# Altium integrated library Microchip Linear.IntLib: 855 symbols (part 14 of 22)
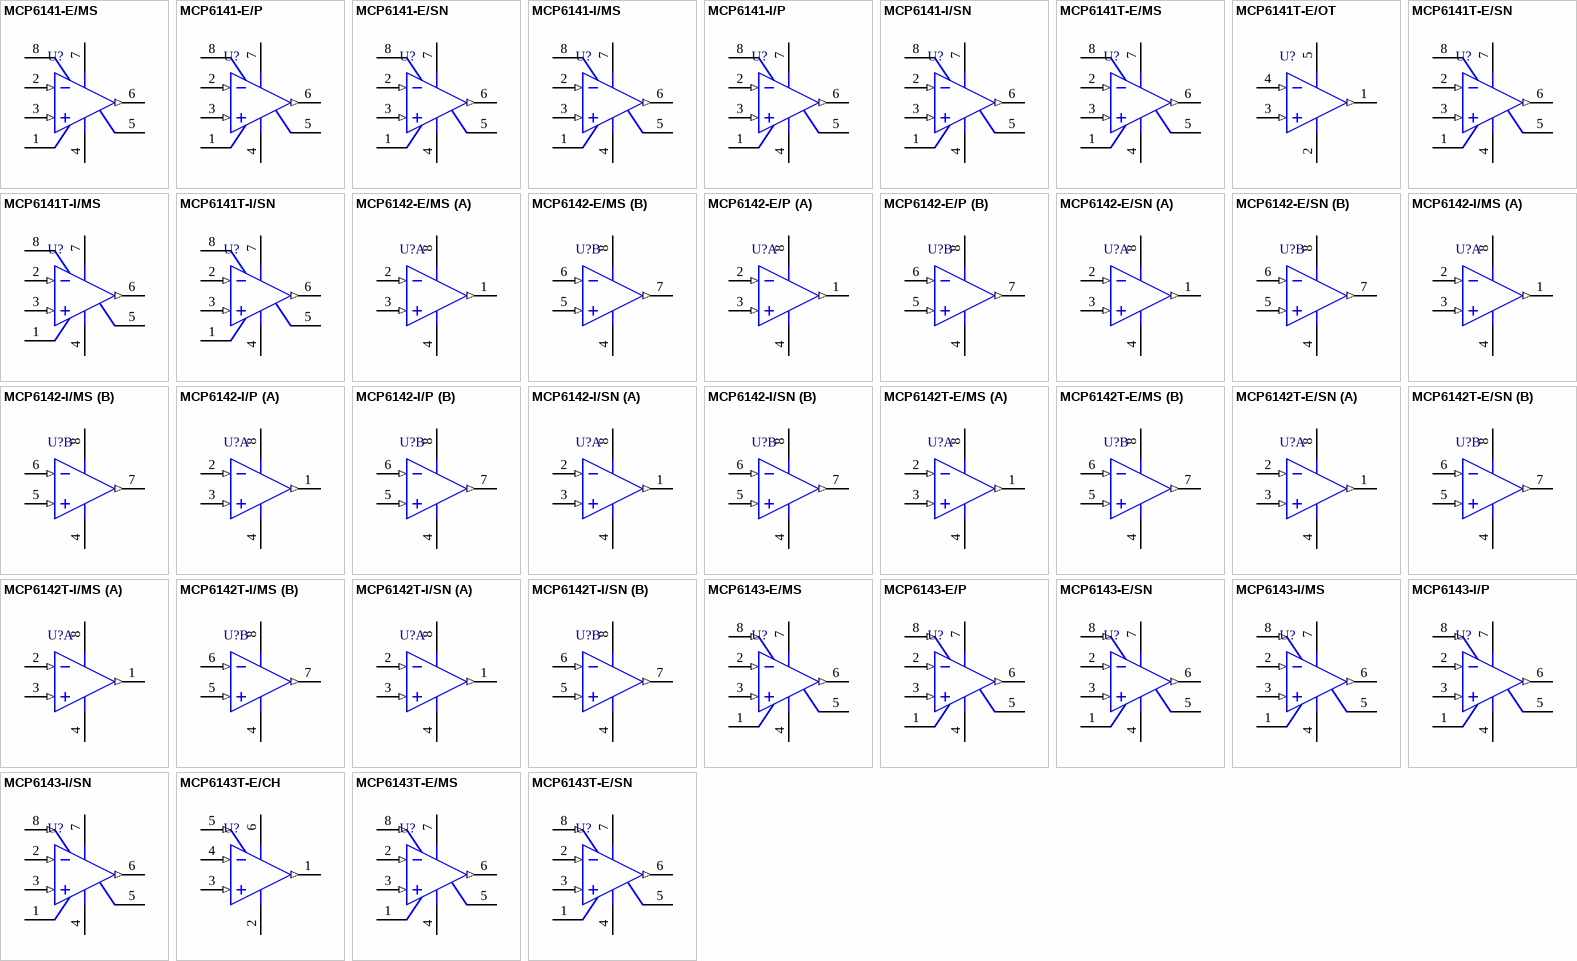
[diagram p54: symbols MCP6141-E/MS to MCP6143T-E/SN]

## MCP6141T-I/MS
designator U?
600 nA, Non-Unity Gain Rail-to-Rail Input/Output Operational Amplifier, 8-Pin MSOP, Industrial Temperature, Tape and Reel; Manufacturer: Microchip; PartNumber: MCP6141T-I/MS; DatasheetVersion: revD, May-2009; PackageVersion: revBB, Aug-2009; PackageReference: MSOP-MS8; PackageDescription: 8-Lead Plastic Micro Small Outline Package (MS) [MSOP]; Supplier 1: Digi-Key; Supplier Part Number 1: MCP6141T-I/MS-ND; Mounting Technology: Surface Mount; ComponentLink1Description: Manufacturer URL; ComponentLink1URL: http://www.microchip.com/; ComponentLink2Description: Datasheet; ComponentLink2URL: http://ww1.microchip.com/downloads/en/DeviceDoc/21668d.pdf; ComponentLink3Description: Package Specification; ComponentLink3URL: http://www.microchip.com/stellent/groups/techpub_sg/documents/packagingspec/en012702.pdf
footprint MSOP-MS8_N (TSOP, 8-Leads, Body 3x3mm, Pitch 0.65mm, IPC Medium Density)
footprint MSOP-MS8_L (TSOP, 8-Leads, Body 3x3mm, Pitch 0.65mm, IPC High Density)
footprint MSOP-MS8_M (TSOP, 8-Leads, Body 3x3mm, Pitch 0.65mm, IPC Low Density)
pins: 1 NC, 2 VIN- (in), 3 VIN+ (in), 4 VSS (power), 5 NC, 6 VOUT (out), 7 VDD (power), 8 NC

## MCP6141T-I/SN
designator U?
600 nA, Non-Unity Gain Rail-to-Rail Input/Output Operational Amplifier, 8-Pin SOIC, Industrial Temperature, Tape and Reel; Manufacturer: Microchip; PartNumber: MCP6141T-I/SN; DatasheetVersion: revD, May-2009; PackageVersion: revBB, Aug-2009; PackageReference: SOIC-SN8; PackageDescription: 8-Lead Plastic Small Outline (SN) - Narrow, 3.90mm Body [SOIC]; Supplier 1: Digi-Key; Supplier Part Number 1: MCP6141T-I/SN-ND; Mounting Technology: Surface Mount; Code_JEDEC: MS-012; Code_IPC: SOIC127P600-8; ComponentLink1Description: Manufacturer URL; ComponentLink1URL: http://www.microchip.com/; ComponentLink2Description: Datasheet; ComponentLink2URL: http://ww1.microchip.com/downloads/en/DeviceDoc/21668d.pdf; ComponentLink3Description: Package Specification; ComponentLink3URL: http://www.microchip.com/stellent/groups/techpub_sg/documents/packagingspec/en012702.pdf
footprint SOIC-SN8_N (SOIC, 8-Leads, Body 4.9x3.8mm, Pitch 1.27mm, IPC Medium Density)
footprint SOIC-SN8_L (SOIC, 8-Leads, Body 4.9x3.8mm, Pitch 1.27mm, IPC High Density)
footprint SOIC-SN8_M (SOIC, 8-Leads, Body 4.9x3.8mm, Pitch 1.27mm, IPC Low Density)
pins: 1 NC, 2 VIN- (in), 3 VIN+ (in), 4 VSS (power), 5 NC, 6 VOUT (out), 7 VDD (power), 8 NC

## MCP6142-E/MS
designator U?
600 nA, Non-Unity Gain Rail-to-Rail Input/Output Operational Amplifier, 8-Pin MSOP, Extended Temperature; Manufacturer: Microchip; PartNumber: MCP6142-E/MS; DatasheetVersion: revD, May-2009; PackageVersion: revBB, Aug-2009; PackageReference: MSOP-MS8; PackageDescription: 8-Lead Plastic Micro Small Outline Package (MS) [MSOP]; Supplier 1: Digi-Key; Supplier Part Number 1: MCP6142-E/MS-ND; Mounting Technology: Surface Mount; ComponentLink1Description: Manufacturer URL; ComponentLink1URL: http://www.microchip.com/; ComponentLink2Description: Datasheet; ComponentLink2URL: http://ww1.microchip.com/downloads/en/DeviceDoc/21668d.pdf; ComponentLink3Description: Package Specification; ComponentLink3URL: http://www.microchip.com/stellent/groups/techpub_sg/documents/packagingspec/en012702.pdf
footprint MSOP-MS8_N (TSOP, 8-Leads, Body 3x3mm, Pitch 0.65mm, IPC Medium Density)
footprint MSOP-MS8_L (TSOP, 8-Leads, Body 3x3mm, Pitch 0.65mm, IPC High Density)
footprint MSOP-MS8_M (TSOP, 8-Leads, Body 3x3mm, Pitch 0.65mm, IPC Low Density)
pins on every part: 4 VSS (power), 8 VDD (power)
part A pins: 1 VOUTA (out), 2 VINA- (in), 3 VINA+ (in)
part B pins: 5 VINB+ (in), 6 VINB- (in), 7 VOUTB (out)

## MCP6142-E/P
designator U?
600 nA, Non-Unity Gain Rail-to-Rail Input/Output Operational Amplifier, 8-Pin PDIP, Extended Temperature; Manufacturer: Microchip; PartNumber: MCP6142-E/P; DatasheetVersion: revD, May-2009; PackageVersion: revBB, Aug-2009; PackageReference: PDIP300-P8; PackageDescription: 8-Lead Plastic Dual In-Line (P) - 300 mil Body [PDIP]; Supplier 1: Digi-Key; Supplier Part Number 1: MCP6142-E/P-ND; Mounting Technology: Through Hole; Code_JEDEC: MS-001; ComponentLink1Description: Manufacturer URL; ComponentLink1URL: http://www.microchip.com/; ComponentLink2Description: Datasheet; ComponentLink2URL: http://ww1.microchip.com/downloads/en/DeviceDoc/21668d.pdf; ComponentLink3Description: Package Specification; ComponentLink3URL: http://www.microchip.com/stellent/groups/techpub_sg/documents/packagingspec/en012702.pdf
footprint PDIP300-P8 (DIP, 8-Leads, Row Spacing 7.62mm, Pitch 2.54mm, Body 9.5x6.6mm)
pins on every part: 4 VSS (power), 8 VDD (power)
part A pins: 1 VOUTA (out), 2 VINA- (in), 3 VINA+ (in)
part B pins: 5 VINB+ (in), 6 VINB- (in), 7 VOUTB (out)

## MCP6142-E/SN
designator U?
600 nA, Non-Unity Gain Rail-to-Rail Input/Output Operational Amplifier, 8-Pin SOIC, Extended Temperature; Manufacturer: Microchip; PartNumber: MCP6142-E/SN; DatasheetVersion: revD, May-2009; PackageVersion: revBB, Aug-2009; PackageReference: SOIC-SN8; PackageDescription: 8-Lead Plastic Small Outline (SN) - Narrow, 3.90mm Body [SOIC]; Supplier 1: Digi-Key; Supplier Part Number 1: MCP6142-E/SN-ND; Mounting Technology: Surface Mount; Code_JEDEC: MS-012; Code_IPC: SOIC127P600-8; ComponentLink1Description: Manufacturer URL; ComponentLink1URL: http://www.microchip.com/; ComponentLink2Description: Datasheet; ComponentLink2URL: http://ww1.microchip.com/downloads/en/DeviceDoc/21668d.pdf; ComponentLink3Description: Package Specification; ComponentLink3URL: http://www.microchip.com/stellent/groups/techpub_sg/documents/packagingspec/en012702.pdf
footprint SOIC-SN8_N (SOIC, 8-Leads, Body 4.9x3.8mm, Pitch 1.27mm, IPC Medium Density)
footprint SOIC-SN8_L (SOIC, 8-Leads, Body 4.9x3.8mm, Pitch 1.27mm, IPC High Density)
footprint SOIC-SN8_M (SOIC, 8-Leads, Body 4.9x3.8mm, Pitch 1.27mm, IPC Low Density)
pins on every part: 4 VSS (power), 8 VDD (power)
part A pins: 1 VOUTA (out), 2 VINA- (in), 3 VINA+ (in)
part B pins: 5 VINB+ (in), 6 VINB- (in), 7 VOUTB (out)

## MCP6142-I/MS
designator U?
600 nA, Non-Unity Gain Rail-to-Rail Input/Output Operational Amplifier, 8-Pin MSOP, Industrial Temperature; Manufacturer: Microchip; PartNumber: MCP6142-I/MS; DatasheetVersion: revD, May-2009; PackageVersion: revBB, Aug-2009; PackageReference: MSOP-MS8; PackageDescription: 8-Lead Plastic Micro Small Outline Package (MS) [MSOP]; Supplier 1: Digi-Key; Supplier Part Number 1: MCP6142-I/MS-ND; Mounting Technology: Surface Mount; ComponentLink1Description: Manufacturer URL; ComponentLink1URL: http://www.microchip.com/; ComponentLink2Description: Datasheet; ComponentLink2URL: http://ww1.microchip.com/downloads/en/DeviceDoc/21668d.pdf; ComponentLink3Description: Package Specification; ComponentLink3URL: http://www.microchip.com/stellent/groups/techpub_sg/documents/packagingspec/en012702.pdf
footprint MSOP-MS8_N (TSOP, 8-Leads, Body 3x3mm, Pitch 0.65mm, IPC Medium Density)
footprint MSOP-MS8_L (TSOP, 8-Leads, Body 3x3mm, Pitch 0.65mm, IPC High Density)
footprint MSOP-MS8_M (TSOP, 8-Leads, Body 3x3mm, Pitch 0.65mm, IPC Low Density)
pins on every part: 4 VSS (power), 8 VDD (power)
part A pins: 1 VOUTA (out), 2 VINA- (in), 3 VINA+ (in)
part B pins: 5 VINB+ (in), 6 VINB- (in), 7 VOUTB (out)

## MCP6142-I/P
designator U?
600 nA, Non-Unity Gain Rail-to-Rail Input/Output Operational Amplifier, 8-Pin PDIP, Industrial Temperature; Manufacturer: Microchip; PartNumber: MCP6142-I/P; DatasheetVersion: revD, May-2009; PackageVersion: revBB, Aug-2009; PackageReference: PDIP300-P8; PackageDescription: 8-Lead Plastic Dual In-Line (P) - 300 mil Body [PDIP]; Supplier 1: Digi-Key; Supplier Part Number 1: MCP6142-I/P-ND; Mounting Technology: Through Hole; Code_JEDEC: MS-001; ComponentLink1Description: Manufacturer URL; ComponentLink1URL: http://www.microchip.com/; ComponentLink2Description: Datasheet; ComponentLink2URL: http://ww1.microchip.com/downloads/en/DeviceDoc/21668d.pdf; ComponentLink3Description: Package Specification; ComponentLink3URL: http://www.microchip.com/stellent/groups/techpub_sg/documents/packagingspec/en012702.pdf
footprint PDIP300-P8 (DIP, 8-Leads, Row Spacing 7.62mm, Pitch 2.54mm, Body 9.5x6.6mm)
pins on every part: 4 VSS (power), 8 VDD (power)
part A pins: 1 VOUTA (out), 2 VINA- (in), 3 VINA+ (in)
part B pins: 5 VINB+ (in), 6 VINB- (in), 7 VOUTB (out)

## MCP6142-I/SN
designator U?
600 nA, Non-Unity Gain Rail-to-Rail Input/Output Operational Amplifier, 8-Pin SOIC, Industrial Temperature; Manufacturer: Microchip; PartNumber: MCP6142-I/SN; DatasheetVersion: revD, May-2009; PackageVersion: revBB, Aug-2009; PackageReference: SOIC-SN8; PackageDescription: 8-Lead Plastic Small Outline (SN) - Narrow, 3.90mm Body [SOIC]; Supplier 1: Digi-Key; Supplier Part Number 1: MCP6142-I/SN-ND; Mounting Technology: Surface Mount; Code_JEDEC: MS-012; Code_IPC: SOIC127P600-8; ComponentLink1Description: Manufacturer URL; ComponentLink1URL: http://www.microchip.com/; ComponentLink2Description: Datasheet; ComponentLink2URL: http://ww1.microchip.com/downloads/en/DeviceDoc/21668d.pdf; ComponentLink3Description: Package Specification; ComponentLink3URL: http://www.microchip.com/stellent/groups/techpub_sg/documents/packagingspec/en012702.pdf
footprint SOIC-SN8_N (SOIC, 8-Leads, Body 4.9x3.8mm, Pitch 1.27mm, IPC Medium Density)
footprint SOIC-SN8_L (SOIC, 8-Leads, Body 4.9x3.8mm, Pitch 1.27mm, IPC High Density)
footprint SOIC-SN8_M (SOIC, 8-Leads, Body 4.9x3.8mm, Pitch 1.27mm, IPC Low Density)
pins on every part: 4 VSS (power), 8 VDD (power)
part A pins: 1 VOUTA (out), 2 VINA- (in), 3 VINA+ (in)
part B pins: 5 VINB+ (in), 6 VINB- (in), 7 VOUTB (out)

## MCP6142T-E/MS
designator U?
600 nA, Non-Unity Gain Rail-to-Rail Input/Output Operational Amplifier, 8-Pin MSOP, Extended Temperature, Tape and Reel; Manufacturer: Microchip; PartNumber: MCP6142T-E/MS; DatasheetVersion: revD, May-2009; PackageVersion: revBB, Aug-2009; PackageReference: MSOP-MS8; PackageDescription: 8-Lead Plastic Micro Small Outline Package (MS) [MSOP]; Supplier 1: Digi-Key; Supplier Part Number 1: MCP6142T-E/MS-ND; Mounting Technology: Surface Mount; ComponentLink1Description: Manufacturer URL; ComponentLink1URL: http://www.microchip.com/; ComponentLink2Description: Datasheet; ComponentLink2URL: http://ww1.microchip.com/downloads/en/DeviceDoc/21668d.pdf; ComponentLink3Description: Package Specification; ComponentLink3URL: http://www.microchip.com/stellent/groups/techpub_sg/documents/packagingspec/en012702.pdf
footprint MSOP-MS8_N (TSOP, 8-Leads, Body 3x3mm, Pitch 0.65mm, IPC Medium Density)
footprint MSOP-MS8_L (TSOP, 8-Leads, Body 3x3mm, Pitch 0.65mm, IPC High Density)
footprint MSOP-MS8_M (TSOP, 8-Leads, Body 3x3mm, Pitch 0.65mm, IPC Low Density)
pins on every part: 4 VSS (power), 8 VDD (power)
part A pins: 1 VOUTA (out), 2 VINA- (in), 3 VINA+ (in)
part B pins: 5 VINB+ (in), 6 VINB- (in), 7 VOUTB (out)

## MCP6142T-E/SN
designator U?
600 nA, Non-Unity Gain Rail-to-Rail Input/Output Operational Amplifier, 8-Pin SOIC, Extended Temperature, Tape and Reel; Manufacturer: Microchip; PartNumber: MCP6142T-E/SN; DatasheetVersion: revD, May-2009; PackageVersion: revBB, Aug-2009; PackageReference: SOIC-SN8; PackageDescription: 8-Lead Plastic Small Outline (SN) - Narrow, 3.90mm Body [SOIC]; Supplier 1: Digi-Key; Supplier Part Number 1: MCP6142T-E/SN-ND; Mounting Technology: Surface Mount; Code_JEDEC: MS-012; Code_IPC: SOIC127P600-8; ComponentLink1Description: Manufacturer URL; ComponentLink1URL: http://www.microchip.com/; ComponentLink2Description: Datasheet; ComponentLink2URL: http://ww1.microchip.com/downloads/en/DeviceDoc/21668d.pdf; ComponentLink3Description: Package Specification; ComponentLink3URL: http://www.microchip.com/stellent/groups/techpub_sg/documents/packagingspec/en012702.pdf
footprint SOIC-SN8_N (SOIC, 8-Leads, Body 4.9x3.8mm, Pitch 1.27mm, IPC Medium Density)
footprint SOIC-SN8_L (SOIC, 8-Leads, Body 4.9x3.8mm, Pitch 1.27mm, IPC High Density)
footprint SOIC-SN8_M (SOIC, 8-Leads, Body 4.9x3.8mm, Pitch 1.27mm, IPC Low Density)
pins on every part: 4 VSS (power), 8 VDD (power)
part A pins: 1 VOUTA (out), 2 VINA- (in), 3 VINA+ (in)
part B pins: 5 VINB+ (in), 6 VINB- (in), 7 VOUTB (out)

## MCP6142T-I/MS
designator U?
600 nA, Non-Unity Gain Rail-to-Rail Input/Output Operational Amplifier, 8-Pin MSOP, Industrial Temperature, Tape and Reel; Manufacturer: Microchip; PartNumber: MCP6142T-I/MS; DatasheetVersion: revD, May-2009; PackageVersion: revBB, Aug-2009; PackageReference: MSOP-MS8; PackageDescription: 8-Lead Plastic Micro Small Outline Package (MS) [MSOP]; Supplier 1: Digi-Key; Supplier Part Number 1: MCP6142T-I/MS-ND; Mounting Technology: Surface Mount; ComponentLink1Description: Manufacturer URL; ComponentLink1URL: http://www.microchip.com/; ComponentLink2Description: Datasheet; ComponentLink2URL: http://ww1.microchip.com/downloads/en/DeviceDoc/21668d.pdf; ComponentLink3Description: Package Specification; ComponentLink3URL: http://www.microchip.com/stellent/groups/techpub_sg/documents/packagingspec/en012702.pdf
footprint MSOP-MS8_N (TSOP, 8-Leads, Body 3x3mm, Pitch 0.65mm, IPC Medium Density)
footprint MSOP-MS8_L (TSOP, 8-Leads, Body 3x3mm, Pitch 0.65mm, IPC High Density)
footprint MSOP-MS8_M (TSOP, 8-Leads, Body 3x3mm, Pitch 0.65mm, IPC Low Density)
pins on every part: 4 VSS (power), 8 VDD (power)
part A pins: 1 VOUTA (out), 2 VINA- (in), 3 VINA+ (in)
part B pins: 5 VINB+ (in), 6 VINB- (in), 7 VOUTB (out)

## MCP6142T-I/SN
designator U?
600 nA, Non-Unity Gain Rail-to-Rail Input/Output Operational Amplifier, 8-Pin SOIC, Industrial Temperature, Tape and Reel; Manufacturer: Microchip; PartNumber: MCP6142T-I/SN; DatasheetVersion: revD, May-2009; PackageVersion: revBB, Aug-2009; PackageReference: SOIC-SN8; PackageDescription: 8-Lead Plastic Small Outline (SN) - Narrow, 3.90mm Body [SOIC]; Supplier 1: Digi-Key; Supplier Part Number 1: MCP6142T-I/SN-ND; Mounting Technology: Surface Mount; Code_JEDEC: MS-012; Code_IPC: SOIC127P600-8; ComponentLink1Description: Manufacturer URL; ComponentLink1URL: http://www.microchip.com/; ComponentLink2Description: Datasheet; ComponentLink2URL: http://ww1.microchip.com/downloads/en/DeviceDoc/21668d.pdf; ComponentLink3Description: Package Specification; ComponentLink3URL: http://www.microchip.com/stellent/groups/techpub_sg/documents/packagingspec/en012702.pdf
footprint SOIC-SN8_N (SOIC, 8-Leads, Body 4.9x3.8mm, Pitch 1.27mm, IPC Medium Density)
footprint SOIC-SN8_L (SOIC, 8-Leads, Body 4.9x3.8mm, Pitch 1.27mm, IPC High Density)
footprint SOIC-SN8_M (SOIC, 8-Leads, Body 4.9x3.8mm, Pitch 1.27mm, IPC Low Density)
pins on every part: 4 VSS (power), 8 VDD (power)
part A pins: 1 VOUTA (out), 2 VINA- (in), 3 VINA+ (in)
part B pins: 5 VINB+ (in), 6 VINB- (in), 7 VOUTB (out)

## MCP6143-E/MS
designator U?
600 nA, Non-Unity Gain Rail-to-Rail Input/Output Operational Amplifier, 8-Pin MSOP, Extended Temperature; Manufacturer: Microchip; PartNumber: MCP6143-E/MS; DatasheetVersion: revD, May-2009; PackageVersion: revBB, Aug-2009; PackageReference: MSOP-MS8; PackageDescription: 8-Lead Plastic Micro Small Outline Package (MS) [MSOP]; Supplier 1: Digi-Key; Supplier Part Number 1: MCP6143-E/MS-ND; Mounting Technology: Surface Mount; ComponentLink1Description: Manufacturer URL; ComponentLink1URL: http://www.microchip.com/; ComponentLink2Description: Datasheet; ComponentLink2URL: http://ww1.microchip.com/downloads/en/DeviceDoc/21668d.pdf; ComponentLink3Description: Package Specification; ComponentLink3URL: http://www.microchip.com/stellent/groups/techpub_sg/documents/packagingspec/en012702.pdf
footprint MSOP-MS8_N (TSOP, 8-Leads, Body 3x3mm, Pitch 0.65mm, IPC Medium Density)
footprint MSOP-MS8_L (TSOP, 8-Leads, Body 3x3mm, Pitch 0.65mm, IPC High Density)
footprint MSOP-MS8_M (TSOP, 8-Leads, Body 3x3mm, Pitch 0.65mm, IPC Low Density)
pins: 1 NC, 2 VIN- (in), 3 VIN+ (in), 4 VSS (power), 5 NC, 6 VOUT (out), 7 VDD (power), 8 ~{CS} (in)

## MCP6143-E/P
designator U?
600 nA, Non-Unity Gain Rail-to-Rail Input/Output Operational Amplifier, 8-Pin PDIP, Extended Temperature; Manufacturer: Microchip; PartNumber: MCP6143-E/P; DatasheetVersion: revD, May-2009; PackageVersion: revBB, Aug-2009; PackageReference: PDIP300-P8; PackageDescription: 8-Lead Plastic Dual In-Line (P) - 300 mil Body [PDIP]; Supplier 1: Digi-Key; Supplier Part Number 1: MCP6143-E/P-ND; Mounting Technology: Through Hole; Code_JEDEC: MS-001; ComponentLink1Description: Manufacturer URL; ComponentLink1URL: http://www.microchip.com/; ComponentLink2Description: Datasheet; ComponentLink2URL: http://ww1.microchip.com/downloads/en/DeviceDoc/21668d.pdf; ComponentLink3Description: Package Specification; ComponentLink3URL: http://www.microchip.com/stellent/groups/techpub_sg/documents/packagingspec/en012702.pdf
footprint PDIP300-P8 (DIP, 8-Leads, Row Spacing 7.62mm, Pitch 2.54mm, Body 9.5x6.6mm)
pins: 1 NC, 2 VIN- (in), 3 VIN+ (in), 4 VSS (power), 5 NC, 6 VOUT (out), 7 VDD (power), 8 ~{CS} (in)

## MCP6143-E/SN
designator U?
600 nA, Non-Unity Gain Rail-to-Rail Input/Output Operational Amplifier, 8-Pin SOIC, Extended Temperature; Manufacturer: Microchip; PartNumber: MCP6143-E/SN; DatasheetVersion: revD, May-2009; PackageVersion: revBB, Aug-2009; PackageReference: SOIC-SN8; PackageDescription: 8-Lead Plastic Small Outline (SN) - Narrow, 3.90mm Body [SOIC]; Supplier 1: Digi-Key; Supplier Part Number 1: MCP6143-E/SN-ND; Mounting Technology: Surface Mount; Code_JEDEC: MS-012; Code_IPC: SOIC127P600-8; ComponentLink1Description: Manufacturer URL; ComponentLink1URL: http://www.microchip.com/; ComponentLink2Description: Datasheet; ComponentLink2URL: http://ww1.microchip.com/downloads/en/DeviceDoc/21668d.pdf; ComponentLink3Description: Package Specification; ComponentLink3URL: http://www.microchip.com/stellent/groups/techpub_sg/documents/packagingspec/en012702.pdf
footprint SOIC-SN8_N (SOIC, 8-Leads, Body 4.9x3.8mm, Pitch 1.27mm, IPC Medium Density)
footprint SOIC-SN8_L (SOIC, 8-Leads, Body 4.9x3.8mm, Pitch 1.27mm, IPC High Density)
footprint SOIC-SN8_M (SOIC, 8-Leads, Body 4.9x3.8mm, Pitch 1.27mm, IPC Low Density)
pins: 1 NC, 2 VIN- (in), 3 VIN+ (in), 4 VSS (power), 5 NC, 6 VOUT (out), 7 VDD (power), 8 ~{CS} (in)

## MCP6143-I/MS
designator U?
600 nA, Non-Unity Gain Rail-to-Rail Input/Output Operational Amplifier, 8-Pin MSOP, Industrial Temperature; Manufacturer: Microchip; PartNumber: MCP6143-I/MS; DatasheetVersion: revD, May-2009; PackageVersion: revBB, Aug-2009; PackageReference: MSOP-MS8; PackageDescription: 8-Lead Plastic Micro Small Outline Package (MS) [MSOP]; Supplier 1: Digi-Key; Supplier Part Number 1: MCP6143-I/MS-ND; Mounting Technology: Surface Mount; ComponentLink1Description: Manufacturer URL; ComponentLink1URL: http://www.microchip.com/; ComponentLink2Description: Datasheet; ComponentLink2URL: http://ww1.microchip.com/downloads/en/DeviceDoc/21668d.pdf; ComponentLink3Description: Package Specification; ComponentLink3URL: http://www.microchip.com/stellent/groups/techpub_sg/documents/packagingspec/en012702.pdf
footprint MSOP-MS8_N (TSOP, 8-Leads, Body 3x3mm, Pitch 0.65mm, IPC Medium Density)
footprint MSOP-MS8_L (TSOP, 8-Leads, Body 3x3mm, Pitch 0.65mm, IPC High Density)
footprint MSOP-MS8_M (TSOP, 8-Leads, Body 3x3mm, Pitch 0.65mm, IPC Low Density)
pins: 1 NC, 2 VIN- (in), 3 VIN+ (in), 4 VSS (power), 5 NC, 6 VOUT (out), 7 VDD (power), 8 ~{CS} (in)

## MCP6143-I/P
designator U?
600 nA, Non-Unity Gain Rail-to-Rail Input/Output Operational Amplifier, 8-Pin PDIP, Industrial Temperature; Manufacturer: Microchip; PartNumber: MCP6143-I/P; DatasheetVersion: revD, May-2009; PackageVersion: revBB, Aug-2009; PackageReference: PDIP300-P8; PackageDescription: 8-Lead Plastic Dual In-Line (P) - 300 mil Body [PDIP]; Supplier 1: Digi-Key; Supplier Part Number 1: MCP6143-I/P-ND; Mounting Technology: Through Hole; Code_JEDEC: MS-001; ComponentLink1Description: Manufacturer URL; ComponentLink1URL: http://www.microchip.com/; ComponentLink2Description: Datasheet; ComponentLink2URL: http://ww1.microchip.com/downloads/en/DeviceDoc/21668d.pdf; ComponentLink3Description: Package Specification; ComponentLink3URL: http://www.microchip.com/stellent/groups/techpub_sg/documents/packagingspec/en012702.pdf
footprint PDIP300-P8 (DIP, 8-Leads, Row Spacing 7.62mm, Pitch 2.54mm, Body 9.5x6.6mm)
pins: 1 NC, 2 VIN- (in), 3 VIN+ (in), 4 VSS (power), 5 NC, 6 VOUT (out), 7 VDD (power), 8 ~{CS} (in)

## MCP6143-I/SN
designator U?
600 nA, Non-Unity Gain Rail-to-Rail Input/Output Operational Amplifier, 8-Pin SOIC, Industrial Temperature; Manufacturer: Microchip; PartNumber: MCP6143-I/SN; DatasheetVersion: revD, May-2009; PackageVersion: revBB, Aug-2009; PackageReference: SOIC-SN8; PackageDescription: 8-Lead Plastic Small Outline (SN) - Narrow, 3.90mm Body [SOIC]; Supplier 1: Digi-Key; Supplier Part Number 1: MCP6143-I/SN-ND; Mounting Technology: Surface Mount; Code_JEDEC: MS-012; Code_IPC: SOIC127P600-8; ComponentLink1Description: Manufacturer URL; ComponentLink1URL: http://www.microchip.com/; ComponentLink2Description: Datasheet; ComponentLink2URL: http://ww1.microchip.com/downloads/en/DeviceDoc/21668d.pdf; ComponentLink3Description: Package Specification; ComponentLink3URL: http://www.microchip.com/stellent/groups/techpub_sg/documents/packagingspec/en012702.pdf
footprint SOIC-SN8_N (SOIC, 8-Leads, Body 4.9x3.8mm, Pitch 1.27mm, IPC Medium Density)
footprint SOIC-SN8_L (SOIC, 8-Leads, Body 4.9x3.8mm, Pitch 1.27mm, IPC High Density)
footprint SOIC-SN8_M (SOIC, 8-Leads, Body 4.9x3.8mm, Pitch 1.27mm, IPC Low Density)
pins: 1 NC, 2 VIN- (in), 3 VIN+ (in), 4 VSS (power), 5 NC, 6 VOUT (out), 7 VDD (power), 8 ~{CS} (in)

## MCP6143T-E/CH
designator U?
600 nA, Non-Unity Gain Rail-to-Rail Input/Output Operational Amplifier, 6-Pin SOT-23, Extended Temperature, Tape and Reel; Manufacturer: Microchip; PartNumber: MCP6143T-E/CH; DatasheetVersion: revD, May-2009; PackageVersion: revBB, Aug-2009; PackageReference: SOT-23-CH6; PackageDescription: 6-Lead Plastic Small Outline Transistor (CH) [SOT-23]; Supplier 1: Digi-Key; Supplier Part Number 1: MCP6143T-E/CHTR-ND; Mounting Technology: Surface Mount; Code_IPC: SOT26A-6; ComponentLink1Description: Manufacturer URL; ComponentLink1URL: http://www.microchip.com/; ComponentLink2Description: Datasheet; ComponentLink2URL: http://ww1.microchip.com/downloads/en/DeviceDoc/21668d.pdf; ComponentLink3Description: Package Specification; ComponentLink3URL: http://www.microchip.com/stellent/groups/techpub_sg/documents/packagingspec/en012702.pdf
footprint SOT-23-CH6_N (SOT23, 6-Leads, Body 2.9x1.6mm, Pitch 0.95mm, Lead Span 2.7mm, IPC Medium Density)
footprint SOT-23-CH6_L (SOT23, 6-Leads, Body 2.9x1.6mm, Pitch 0.95mm, Lead Span 2.7mm, IPC High Density)
footprint SOT-23-CH6_M (SOT23, 6-Leads, Body 2.9x1.6mm, Pitch 0.95mm, Lead Span 2.7mm, IPC Low Density)
pins: 1 VOUT (out), 2 VSS (power), 3 VIN+ (in), 4 VIN- (in), 5 ~{CS} (in), 6 VDD (power)

## MCP6143T-E/MS
designator U?
600 nA, Non-Unity Gain Rail-to-Rail Input/Output Operational Amplifier, 8-Pin MSOP, Extended Temperature, Tape and Reel; Manufacturer: Microchip; PartNumber: MCP6143T-E/MS; DatasheetVersion: revD, May-2009; PackageVersion: revBB, Aug-2009; PackageReference: MSOP-MS8; PackageDescription: 8-Lead Plastic Micro Small Outline Package (MS) [MSOP]; Supplier 1: Digi-Key; Supplier Part Number 1: MCP6143T-E/MS-ND; Mounting Technology: Surface Mount; ComponentLink1Description: Manufacturer URL; ComponentLink1URL: http://www.microchip.com/; ComponentLink2Description: Datasheet; ComponentLink2URL: http://ww1.microchip.com/downloads/en/DeviceDoc/21668d.pdf; ComponentLink3Description: Package Specification; ComponentLink3URL: http://www.microchip.com/stellent/groups/techpub_sg/documents/packagingspec/en012702.pdf
footprint MSOP-MS8_N (TSOP, 8-Leads, Body 3x3mm, Pitch 0.65mm, IPC Medium Density)
footprint MSOP-MS8_L (TSOP, 8-Leads, Body 3x3mm, Pitch 0.65mm, IPC High Density)
footprint MSOP-MS8_M (TSOP, 8-Leads, Body 3x3mm, Pitch 0.65mm, IPC Low Density)
pins: 1 NC, 2 VIN- (in), 3 VIN+ (in), 4 VSS (power), 5 NC, 6 VOUT (out), 7 VDD (power), 8 ~{CS} (in)

## MCP6143T-E/SN
designator U?
600 nA, Non-Unity Gain Rail-to-Rail Input/Output Operational Amplifier, 8-Pin SOIC, Extended Temperature, Tape and Reel; Manufacturer: Microchip; PartNumber: MCP6143T-E/SN; DatasheetVersion: revD, May-2009; PackageVersion: revBB, Aug-2009; PackageReference: SOIC-SN8; PackageDescription: 8-Lead Plastic Small Outline (SN) - Narrow, 3.90mm Body [SOIC]; Supplier 1: Digi-Key; Supplier Part Number 1: MCP6143T-E/SN-ND; Mounting Technology: Surface Mount; Code_JEDEC: MS-012; Code_IPC: SOIC127P600-8; ComponentLink1Description: Manufacturer URL; ComponentLink1URL: http://www.microchip.com/; ComponentLink2Description: Datasheet; ComponentLink2URL: http://ww1.microchip.com/downloads/en/DeviceDoc/21668d.pdf; ComponentLink3Description: Package Specification; ComponentLink3URL: http://www.microchip.com/stellent/groups/techpub_sg/documents/packagingspec/en012702.pdf
footprint SOIC-SN8_N (SOIC, 8-Leads, Body 4.9x3.8mm, Pitch 1.27mm, IPC Medium Density)
footprint SOIC-SN8_L (SOIC, 8-Leads, Body 4.9x3.8mm, Pitch 1.27mm, IPC High Density)
footprint SOIC-SN8_M (SOIC, 8-Leads, Body 4.9x3.8mm, Pitch 1.27mm, IPC Low Density)
pins: 1 NC, 2 VIN- (in), 3 VIN+ (in), 4 VSS (power), 5 NC, 6 VOUT (out), 7 VDD (power), 8 ~{CS} (in)

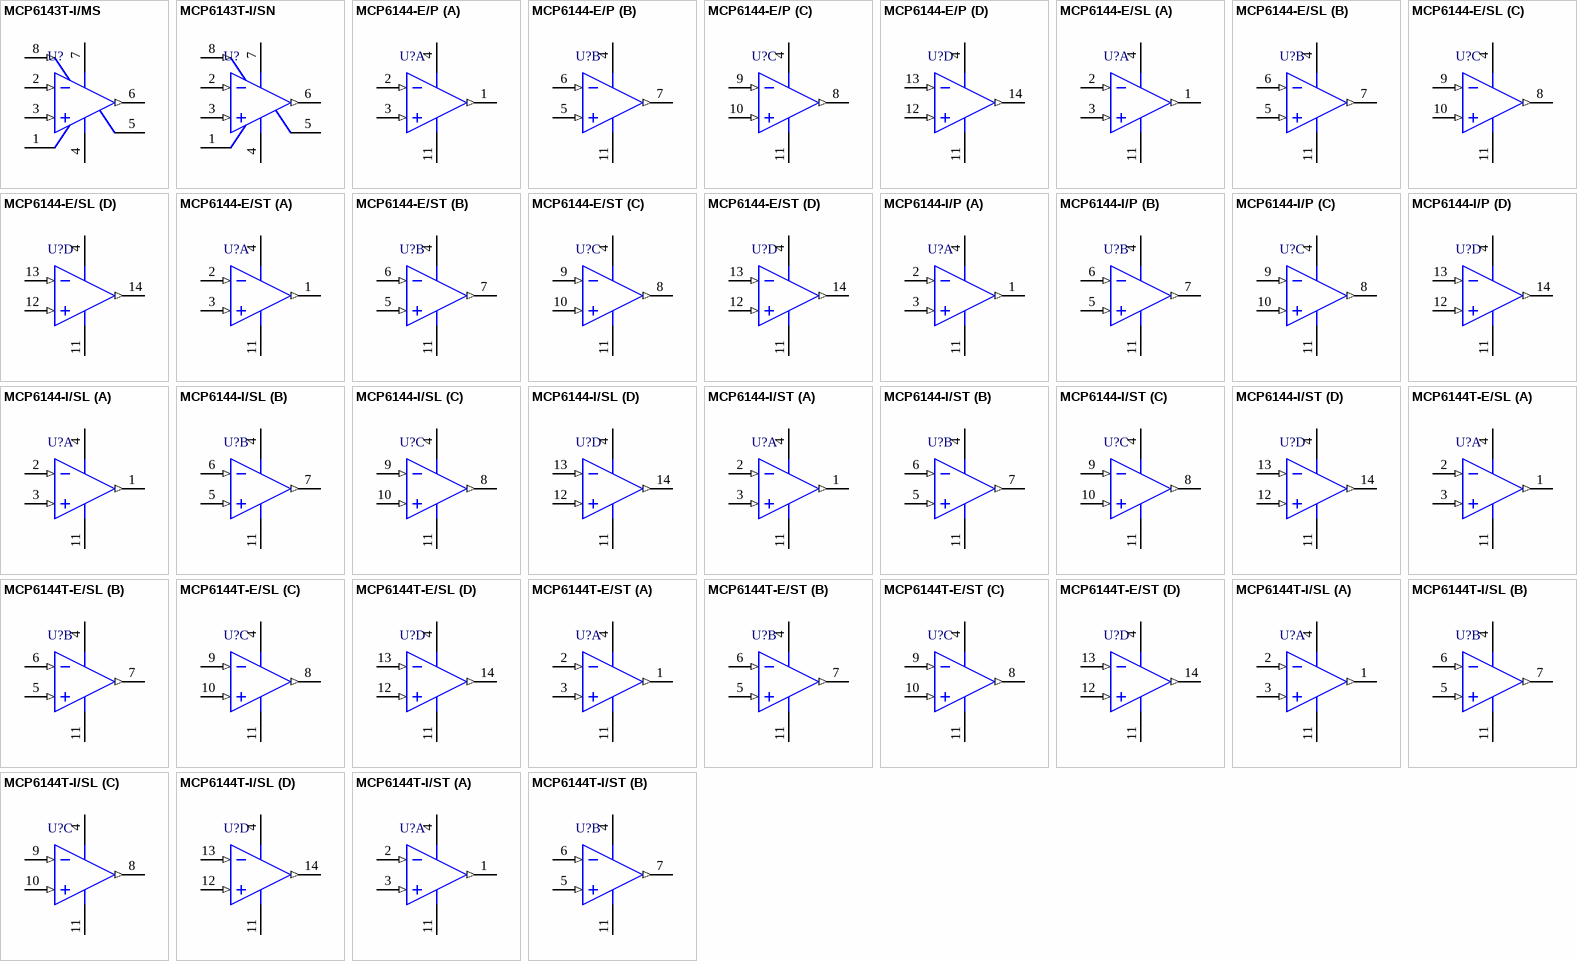
[diagram p26: symbols MCP6143T-I/MS to MCP6144T-I/ST]

## MCP6143T-I/MS
designator U?
600 nA, Non-Unity Gain Rail-to-Rail Input/Output Operational Amplifier, 8-Pin MSOP, Industrial Temperature, Tape and Reel; Manufacturer: Microchip; PartNumber: MCP6143T-I/MS; DatasheetVersion: revD, May-2009; PackageVersion: revBB, Aug-2009; PackageReference: MSOP-MS8; PackageDescription: 8-Lead Plastic Micro Small Outline Package (MS) [MSOP]; Supplier 1: Digi-Key; Supplier Part Number 1: MCP6143T-I/MS-ND; Mounting Technology: Surface Mount; ComponentLink1Description: Manufacturer URL; ComponentLink1URL: http://www.microchip.com/; ComponentLink2Description: Datasheet; ComponentLink2URL: http://ww1.microchip.com/downloads/en/DeviceDoc/21668d.pdf; ComponentLink3Description: Package Specification; ComponentLink3URL: http://www.microchip.com/stellent/groups/techpub_sg/documents/packagingspec/en012702.pdf
footprint MSOP-MS8_N (TSOP, 8-Leads, Body 3x3mm, Pitch 0.65mm, IPC Medium Density)
footprint MSOP-MS8_L (TSOP, 8-Leads, Body 3x3mm, Pitch 0.65mm, IPC High Density)
footprint MSOP-MS8_M (TSOP, 8-Leads, Body 3x3mm, Pitch 0.65mm, IPC Low Density)
pins: 1 NC, 2 VIN- (in), 3 VIN+ (in), 4 VSS (power), 5 NC, 6 VOUT (out), 7 VDD (power), 8 ~{CS} (in)

## MCP6143T-I/SN
designator U?
600 nA, Non-Unity Gain Rail-to-Rail Input/Output Operational Amplifier, 8-Pin SOIC, Industrial Temperature, Tape and Reel; Manufacturer: Microchip; PartNumber: MCP6143T-I/SN; DatasheetVersion: revD, May-2009; PackageVersion: revBB, Aug-2009; PackageReference: SOIC-SN8; PackageDescription: 8-Lead Plastic Small Outline (SN) - Narrow, 3.90mm Body [SOIC]; Supplier 1: Digi-Key; Supplier Part Number 1: MCP6143T-I/SN-ND; Mounting Technology: Surface Mount; Code_JEDEC: MS-012; Code_IPC: SOIC127P600-8; ComponentLink1Description: Manufacturer URL; ComponentLink1URL: http://www.microchip.com/; ComponentLink2Description: Datasheet; ComponentLink2URL: http://ww1.microchip.com/downloads/en/DeviceDoc/21668d.pdf; ComponentLink3Description: Package Specification; ComponentLink3URL: http://www.microchip.com/stellent/groups/techpub_sg/documents/packagingspec/en012702.pdf
footprint SOIC-SN8_N (SOIC, 8-Leads, Body 4.9x3.8mm, Pitch 1.27mm, IPC Medium Density)
footprint SOIC-SN8_L (SOIC, 8-Leads, Body 4.9x3.8mm, Pitch 1.27mm, IPC High Density)
footprint SOIC-SN8_M (SOIC, 8-Leads, Body 4.9x3.8mm, Pitch 1.27mm, IPC Low Density)
pins: 1 NC, 2 VIN- (in), 3 VIN+ (in), 4 VSS (power), 5 NC, 6 VOUT (out), 7 VDD (power), 8 ~{CS} (in)

## MCP6144-E/P
designator U?
600 nA, Non-Unity Gain Rail-to-Rail Input/Output Operational Amplifier, 14-Pin PDIP, Extended Temperature; Manufacturer: Microchip; PartNumber: MCP6144-E/P; DatasheetVersion: revD, May-2009; PackageVersion: revBB, Aug-2009; PackageReference: PDIP300-P14; PackageDescription: 14-Lead Plastic Dual In-Line (P) - 300 mil Body [PDIP]; Supplier 1: Digi-Key; Supplier Part Number 1: MCP6144-E/P-ND; Mounting Technology: Through Hole; ComponentLink1Description: Manufacturer URL; ComponentLink1URL: http://www.microchip.com/; ComponentLink2Description: Datasheet; ComponentLink2URL: http://ww1.microchip.com/downloads/en/DeviceDoc/21668d.pdf; ComponentLink3Description: Package Specification; ComponentLink3URL: http://www.microchip.com/stellent/groups/techpub_sg/documents/packagingspec/en012702.pdf
footprint PDIP300-P14 (DIP, 14-Leads, Row Spacing 7.62mm, Pitch 2.54mm, Body 19.2x6.6mm)
pins on every part: 4 VDD (power), 11 VSS (power)
part A pins: 1 VOUTA (out), 2 VINA- (in), 3 VINA+ (in)
part B pins: 5 VINB+ (in), 6 VINB- (in), 7 VOUTB (out)
part C pins: 8 VOUTC (out), 9 VINC- (in), 10 VINC+ (in)
part D pins: 12 VIND+ (in), 13 VIND- (in), 14 VOUTD (out)

## MCP6144-E/SL
designator U?
600 nA, Non-Unity Gain Rail-to-Rail Input/Output Operational Amplifier, 14-Pin SOIC, Extended Temperature; Manufacturer: Microchip; PartNumber: MCP6144-E/SL; DatasheetVersion: revD, May-2009; PackageVersion: revBB, Aug-2009; PackageReference: SOIC-SL14; PackageDescription: 14-Lead Plastic Small Outline (SL) - Narrow, 3.90mm Body [SOIC]; Supplier 1: Digi-Key; Supplier Part Number 1: MCP6144-E/SL-ND; Mounting Technology: Surface Mount; Code_JEDEC: MS-012-AB; Code_IPC: SOIC127P600-14; ComponentLink1Description: Manufacturer URL; ComponentLink1URL: http://www.microchip.com/; ComponentLink2Description: Datasheet; ComponentLink2URL: http://ww1.microchip.com/downloads/en/DeviceDoc/21668d.pdf; ComponentLink3Description: Package Specification; ComponentLink3URL: http://www.microchip.com/stellent/groups/techpub_sg/documents/packagingspec/en012702.pdf
footprint SOIC-SL14_N (SOIC, 14-Leads, Body 8.7x3.9mm, Pitch 1.27mm, IPC Medium Density)
footprint SOIC-SL14_L (SOIC, 14-Leads, Body 8.7x3.9mm, Pitch 1.27mm, IPC High Density)
footprint SOIC-SL14_M (SOIC, 14-Leads, Body 8.7x3.9mm, Pitch 1.27mm, IPC Low Density)
pins on every part: 4 VDD (power), 11 VSS (power)
part A pins: 1 VOUTA (out), 2 VINA- (in), 3 VINA+ (in)
part B pins: 5 VINB+ (in), 6 VINB- (in), 7 VOUTB (out)
part C pins: 8 VOUTC (out), 9 VINC- (in), 10 VINC+ (in)
part D pins: 12 VIND+ (in), 13 VIND- (in), 14 VOUTD (out)

## MCP6144-E/ST
designator U?
600 nA, Non-Unity Gain Rail-to-Rail Input/Output Operational Amplifier, 14-Pin TSSOP, Extended Temperature; Manufacturer: Microchip; PartNumber: MCP6144-E/ST; DatasheetVersion: revD, May-2009; PackageVersion: revBB, Aug-2009; PackageReference: TSSOP-ST14; PackageDescription: 14-Lead Plastic Thin Shrink Small Outline (ST) - 4.4mm Body [TSSOP]; Supplier 1: Digi-Key; Supplier Part Number 1: MCP6144-E/ST-ND; Mounting Technology: Surface Mount; ComponentLink1Description: Manufacturer URL; ComponentLink1URL: http://www.microchip.com/; ComponentLink2Description: Datasheet; ComponentLink2URL: http://ww1.microchip.com/downloads/en/DeviceDoc/21668d.pdf; ComponentLink3Description: Package Specification; ComponentLink3URL: http://www.microchip.com/stellent/groups/techpub_sg/documents/packagingspec/en012702.pdf
footprint TSSOP-ST14_N (TSOP, 14-Leads, Body 5x4.4mm, Pitch 0.65mm, IPC Medium Density)
footprint TSSOP-ST14_L (TSOP, 14-Leads, Body 5x4.4mm, Pitch 0.65mm, IPC High Density)
footprint TSSOP-ST14_M (TSOP, 14-Leads, Body 5x4.4mm, Pitch 0.65mm, IPC Low Density)
pins on every part: 4 VDD (power), 11 VSS (power)
part A pins: 1 VOUTA (out), 2 VINA- (in), 3 VINA+ (in)
part B pins: 5 VINB+ (in), 6 VINB- (in), 7 VOUTB (out)
part C pins: 8 VOUTC (out), 9 VINC- (in), 10 VINC+ (in)
part D pins: 12 VIND+ (in), 13 VIND- (in), 14 VOUTD (out)

## MCP6144-I/P
designator U?
600 nA, Non-Unity Gain Rail-to-Rail Input/Output Operational Amplifier, 14-Pin PDIP, Industrial Temperature; Manufacturer: Microchip; PartNumber: MCP6144-I/P; DatasheetVersion: revD, May-2009; PackageVersion: revBB, Aug-2009; PackageReference: PDIP300-P14; PackageDescription: 14-Lead Plastic Dual In-Line (P) - 300 mil Body [PDIP]; Supplier 1: Digi-Key; Supplier Part Number 1: MCP6144-I/P-ND; Mounting Technology: Through Hole; ComponentLink1Description: Manufacturer URL; ComponentLink1URL: http://www.microchip.com/; ComponentLink2Description: Datasheet; ComponentLink2URL: http://ww1.microchip.com/downloads/en/DeviceDoc/21668d.pdf; ComponentLink3Description: Package Specification; ComponentLink3URL: http://www.microchip.com/stellent/groups/techpub_sg/documents/packagingspec/en012702.pdf
footprint PDIP300-P14 (DIP, 14-Leads, Row Spacing 7.62mm, Pitch 2.54mm, Body 19.2x6.6mm)
pins on every part: 4 VDD (power), 11 VSS (power)
part A pins: 1 VOUTA (out), 2 VINA- (in), 3 VINA+ (in)
part B pins: 5 VINB+ (in), 6 VINB- (in), 7 VOUTB (out)
part C pins: 8 VOUTC (out), 9 VINC- (in), 10 VINC+ (in)
part D pins: 12 VIND+ (in), 13 VIND- (in), 14 VOUTD (out)

## MCP6144-I/SL
designator U?
600 nA, Non-Unity Gain Rail-to-Rail Input/Output Operational Amplifier, 14-Pin SOIC, Industrial Temperature; Manufacturer: Microchip; PartNumber: MCP6144-I/SL; DatasheetVersion: revD, May-2009; PackageVersion: revBB, Aug-2009; PackageReference: SOIC-SL14; PackageDescription: 14-Lead Plastic Small Outline (SL) - Narrow, 3.90mm Body [SOIC]; Supplier 1: Digi-Key; Supplier Part Number 1: MCP6144-I/SL-ND; Mounting Technology: Surface Mount; Code_JEDEC: MS-012-AB; Code_IPC: SOIC127P600-14; ComponentLink1Description: Manufacturer URL; ComponentLink1URL: http://www.microchip.com/; ComponentLink2Description: Datasheet; ComponentLink2URL: http://ww1.microchip.com/downloads/en/DeviceDoc/21668d.pdf; ComponentLink3Description: Package Specification; ComponentLink3URL: http://www.microchip.com/stellent/groups/techpub_sg/documents/packagingspec/en012702.pdf
footprint SOIC-SL14_N (SOIC, 14-Leads, Body 8.7x3.9mm, Pitch 1.27mm, IPC Medium Density)
footprint SOIC-SL14_L (SOIC, 14-Leads, Body 8.7x3.9mm, Pitch 1.27mm, IPC High Density)
footprint SOIC-SL14_M (SOIC, 14-Leads, Body 8.7x3.9mm, Pitch 1.27mm, IPC Low Density)
pins on every part: 4 VDD (power), 11 VSS (power)
part A pins: 1 VOUTA (out), 2 VINA- (in), 3 VINA+ (in)
part B pins: 5 VINB+ (in), 6 VINB- (in), 7 VOUTB (out)
part C pins: 8 VOUTC (out), 9 VINC- (in), 10 VINC+ (in)
part D pins: 12 VIND+ (in), 13 VIND- (in), 14 VOUTD (out)

## MCP6144-I/ST
designator U?
600 nA, Non-Unity Gain Rail-to-Rail Input/Output Operational Amplifier, 14-Pin TSSOP, Industrial Temperature; Manufacturer: Microchip; PartNumber: MCP6144-I/ST; DatasheetVersion: revD, May-2009; PackageVersion: revBB, Aug-2009; PackageReference: TSSOP-ST14; PackageDescription: 14-Lead Plastic Thin Shrink Small Outline (ST) - 4.4mm Body [TSSOP]; Supplier 1: Digi-Key; Supplier Part Number 1: MCP6144-I/ST-ND; Mounting Technology: Surface Mount; ComponentLink1Description: Manufacturer URL; ComponentLink1URL: http://www.microchip.com/; ComponentLink2Description: Datasheet; ComponentLink2URL: http://ww1.microchip.com/downloads/en/DeviceDoc/21668d.pdf; ComponentLink3Description: Package Specification; ComponentLink3URL: http://www.microchip.com/stellent/groups/techpub_sg/documents/packagingspec/en012702.pdf
footprint TSSOP-ST14_N (TSOP, 14-Leads, Body 5x4.4mm, Pitch 0.65mm, IPC Medium Density)
footprint TSSOP-ST14_L (TSOP, 14-Leads, Body 5x4.4mm, Pitch 0.65mm, IPC High Density)
footprint TSSOP-ST14_M (TSOP, 14-Leads, Body 5x4.4mm, Pitch 0.65mm, IPC Low Density)
pins on every part: 4 VDD (power), 11 VSS (power)
part A pins: 1 VOUTA (out), 2 VINA- (in), 3 VINA+ (in)
part B pins: 5 VINB+ (in), 6 VINB- (in), 7 VOUTB (out)
part C pins: 8 VOUTC (out), 9 VINC- (in), 10 VINC+ (in)
part D pins: 12 VIND+ (in), 13 VIND- (in), 14 VOUTD (out)

## MCP6144T-E/SL
designator U?
600 nA, Non-Unity Gain Rail-to-Rail Input/Output Operational Amplifier, 14-Pin SOIC, Extended Temperature, Tape and Reel; Manufacturer: Microchip; PartNumber: MCP6144T-E/SL; DatasheetVersion: revD, May-2009; PackageVersion: revBB, Aug-2009; PackageReference: SOIC-SL14; PackageDescription: 14-Lead Plastic Small Outline (SL) - Narrow, 3.90mm Body [SOIC]; Supplier 1: Digi-Key; Supplier Part Number 1: MCP6144T-E/SL-ND; Mounting Technology: Surface Mount; Code_JEDEC: MS-012-AB; Code_IPC: SOIC127P600-14; ComponentLink1Description: Manufacturer URL; ComponentLink1URL: http://www.microchip.com/; ComponentLink2Description: Datasheet; ComponentLink2URL: http://ww1.microchip.com/downloads/en/DeviceDoc/21668d.pdf; ComponentLink3Description: Package Specification; ComponentLink3URL: http://www.microchip.com/stellent/groups/techpub_sg/documents/packagingspec/en012702.pdf
footprint SOIC-SL14_N (SOIC, 14-Leads, Body 8.7x3.9mm, Pitch 1.27mm, IPC Medium Density)
footprint SOIC-SL14_L (SOIC, 14-Leads, Body 8.7x3.9mm, Pitch 1.27mm, IPC High Density)
footprint SOIC-SL14_M (SOIC, 14-Leads, Body 8.7x3.9mm, Pitch 1.27mm, IPC Low Density)
pins on every part: 4 VDD (power), 11 VSS (power)
part A pins: 1 VOUTA (out), 2 VINA- (in), 3 VINA+ (in)
part B pins: 5 VINB+ (in), 6 VINB- (in), 7 VOUTB (out)
part C pins: 8 VOUTC (out), 9 VINC- (in), 10 VINC+ (in)
part D pins: 12 VIND+ (in), 13 VIND- (in), 14 VOUTD (out)

## MCP6144T-E/ST
designator U?
600 nA, Non-Unity Gain Rail-to-Rail Input/Output Operational Amplifier, 14-Pin TSSOP, Extended Temperature, Tape and Reel; Manufacturer: Microchip; PartNumber: MCP6144T-E/ST; DatasheetVersion: revD, May-2009; PackageVersion: revBB, Aug-2009; PackageReference: TSSOP-ST14; PackageDescription: 14-Lead Plastic Thin Shrink Small Outline (ST) - 4.4mm Body [TSSOP]; Supplier 1: Digi-Key; Supplier Part Number 1: MCP6144T-E/ST-ND; Mounting Technology: Surface Mount; ComponentLink1Description: Manufacturer URL; ComponentLink1URL: http://www.microchip.com/; ComponentLink2Description: Datasheet; ComponentLink2URL: http://ww1.microchip.com/downloads/en/DeviceDoc/21668d.pdf; ComponentLink3Description: Package Specification; ComponentLink3URL: http://www.microchip.com/stellent/groups/techpub_sg/documents/packagingspec/en012702.pdf
footprint TSSOP-ST14_N (TSOP, 14-Leads, Body 5x4.4mm, Pitch 0.65mm, IPC Medium Density)
footprint TSSOP-ST14_L (TSOP, 14-Leads, Body 5x4.4mm, Pitch 0.65mm, IPC High Density)
footprint TSSOP-ST14_M (TSOP, 14-Leads, Body 5x4.4mm, Pitch 0.65mm, IPC Low Density)
pins on every part: 4 VDD (power), 11 VSS (power)
part A pins: 1 VOUTA (out), 2 VINA- (in), 3 VINA+ (in)
part B pins: 5 VINB+ (in), 6 VINB- (in), 7 VOUTB (out)
part C pins: 8 VOUTC (out), 9 VINC- (in), 10 VINC+ (in)
part D pins: 12 VIND+ (in), 13 VIND- (in), 14 VOUTD (out)

## MCP6144T-I/SL
designator U?
600 nA, Non-Unity Gain Rail-to-Rail Input/Output Operational Amplifier, 14-Pin SOIC, Industrial Temperature, Tape and Reel; Manufacturer: Microchip; PartNumber: MCP6144T-I/SL; DatasheetVersion: revD, May-2009; PackageVersion: revBB, Aug-2009; PackageReference: SOIC-SL14; PackageDescription: 14-Lead Plastic Small Outline (SL) - Narrow, 3.90mm Body [SOIC]; Supplier 1: Digi-Key; Supplier Part Number 1: MCP6144T-I/SL-ND; Mounting Technology: Surface Mount; Code_JEDEC: MS-012-AB; Code_IPC: SOIC127P600-14; ComponentLink1Description: Manufacturer URL; ComponentLink1URL: http://www.microchip.com/; ComponentLink2Description: Datasheet; ComponentLink2URL: http://ww1.microchip.com/downloads/en/DeviceDoc/21668d.pdf; ComponentLink3Description: Package Specification; ComponentLink3URL: http://www.microchip.com/stellent/groups/techpub_sg/documents/packagingspec/en012702.pdf
footprint SOIC-SL14_N (SOIC, 14-Leads, Body 8.7x3.9mm, Pitch 1.27mm, IPC Medium Density)
footprint SOIC-SL14_L (SOIC, 14-Leads, Body 8.7x3.9mm, Pitch 1.27mm, IPC High Density)
footprint SOIC-SL14_M (SOIC, 14-Leads, Body 8.7x3.9mm, Pitch 1.27mm, IPC Low Density)
pins on every part: 4 VDD (power), 11 VSS (power)
part A pins: 1 VOUTA (out), 2 VINA- (in), 3 VINA+ (in)
part B pins: 5 VINB+ (in), 6 VINB- (in), 7 VOUTB (out)
part C pins: 8 VOUTC (out), 9 VINC- (in), 10 VINC+ (in)
part D pins: 12 VIND+ (in), 13 VIND- (in), 14 VOUTD (out)

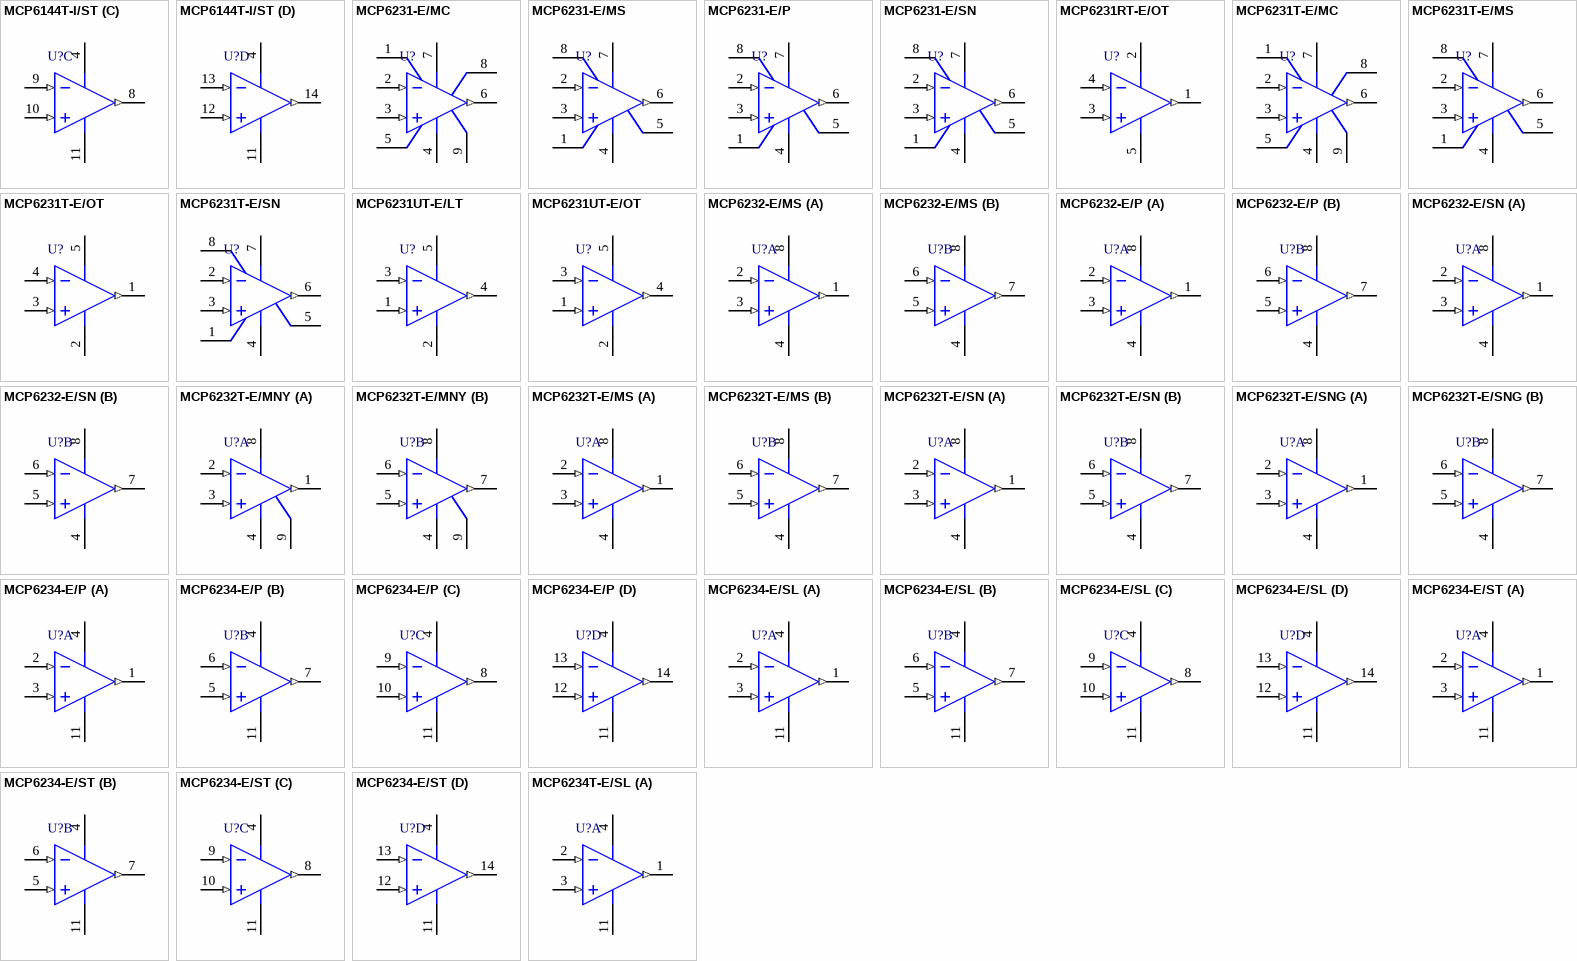
[diagram p27: symbols MCP6144T-I/ST to MCP6234T-E/SL]

## MCP6144T-I/ST
designator U?
600 nA, Non-Unity Gain Rail-to-Rail Input/Output Operational Amplifier, 14-Pin TSSOP, Industrial Temperature, Tape and Reel; Manufacturer: Microchip; PartNumber: MCP6144T-I/ST; DatasheetVersion: revD, May-2009; PackageVersion: revBB, Aug-2009; PackageReference: TSSOP-ST14; PackageDescription: 14-Lead Plastic Thin Shrink Small Outline (ST) - 4.4mm Body [TSSOP]; Supplier 1: Digi-Key; Supplier Part Number 1: MCP6144T-I/ST-ND; Mounting Technology: Surface Mount; ComponentLink1Description: Manufacturer URL; ComponentLink1URL: http://www.microchip.com/; ComponentLink2Description: Datasheet; ComponentLink2URL: http://ww1.microchip.com/downloads/en/DeviceDoc/21668d.pdf; ComponentLink3Description: Package Specification; ComponentLink3URL: http://www.microchip.com/stellent/groups/techpub_sg/documents/packagingspec/en012702.pdf
footprint TSSOP-ST14_N (TSOP, 14-Leads, Body 5x4.4mm, Pitch 0.65mm, IPC Medium Density)
footprint TSSOP-ST14_L (TSOP, 14-Leads, Body 5x4.4mm, Pitch 0.65mm, IPC High Density)
footprint TSSOP-ST14_M (TSOP, 14-Leads, Body 5x4.4mm, Pitch 0.65mm, IPC Low Density)
pins on every part: 4 VDD (power), 11 VSS (power)
part A pins: 1 VOUTA (out), 2 VINA- (in), 3 VINA+ (in)
part B pins: 5 VINB+ (in), 6 VINB- (in), 7 VOUTB (out)
part C pins: 8 VOUTC (out), 9 VINC- (in), 10 VINC+ (in)
part D pins: 12 VIND+ (in), 13 VIND- (in), 14 VOUTD (out)

## MCP6231-E/MC
designator U?
20 uA, 300 KHz Rail-to-Rail Operational Amplifier, 8-Pin DFN, Extended Temperature; Manufacturer: Microchip; PartNumber: MCP6231-E/MC; DatasheetVersion: revE, Aug-2009; PackageVersion: revBB, Aug-2009; PackageReference: DFN-MC8; PackageDescription: 8-Lead Plastic Dual Flat, No Lead Package (MC) - 2x3x0.9mm Body [DFN]; Supplier 1: Digi-Key; Supplier Part Number 1: MCP6231-E/MC-ND; Mounting Technology: Surface Mount; ComponentLink1Description: Manufacturer URL; ComponentLink1URL: http://www.microchip.com/; ComponentLink2Description: Datasheet; ComponentLink2URL: http://ww1.microchip.com/downloads/en/DeviceDoc/22188a.pdf; ComponentLink3Description: Package Specification; ComponentLink3URL: http://www.microchip.com/stellent/groups/techpub_sg/documents/packagingspec/en012702.pdf
footprint DFN-MC8 (SON, 8-Leads, Body 2x3mm, Pitch 0.5mm, Microchip Recommended)
pins: 1 NC, 2 VIN- (in), 3 VIN+ (in), 4 VSS (power), 5 NC, 6 VOUT (out), 7 VDD (power), 8 NC, 9 Thermal Pad

## MCP6231-E/MS
designator U?
20 uA, 300 KHz Rail-to-Rail Operational Amplifier, 8-Pin MSOP, Extended Temperature; Manufacturer: Microchip; PartNumber: MCP6231-E/MS; DatasheetVersion: revE, Aug-2009; PackageVersion: revBB, Aug-2009; PackageReference: MSOP-MS8; PackageDescription: 8-Lead Plastic Micro Small Outline Package (MS) [MSOP]; Supplier 1: Digi-Key; Supplier Part Number 1: MCP6231-E/MS-ND; Mounting Technology: Surface Mount; ComponentLink1Description: Manufacturer URL; ComponentLink1URL: http://www.microchip.com/; ComponentLink2Description: Datasheet; ComponentLink2URL: http://ww1.microchip.com/downloads/en/DeviceDoc/21881e.pdf; ComponentLink3Description: Package Specification; ComponentLink3URL: http://www.microchip.com/stellent/groups/techpub_sg/documents/packagingspec/en012702.pdf
footprint MSOP-MS8_N (TSOP, 8-Leads, Body 3x3mm, Pitch 0.65mm, IPC Medium Density)
footprint MSOP-MS8_L (TSOP, 8-Leads, Body 3x3mm, Pitch 0.65mm, IPC High Density)
footprint MSOP-MS8_M (TSOP, 8-Leads, Body 3x3mm, Pitch 0.65mm, IPC Low Density)
pins: 1 NC, 2 VIN- (in), 3 VIN+ (in), 4 VSS (power), 5 NC, 6 VOUT (out), 7 VDD (power), 8 NC

## MCP6231-E/P
designator U?
20 uA, 300 KHz Rail-to-Rail Operational Amplifier, 8-Pin PDIP, Extended Temperature; Manufacturer: Microchip; PartNumber: MCP6231-E/P; DatasheetVersion: revE, Aug-2009; PackageVersion: revBB, Aug-2009; PackageReference: PDIP300-P8; PackageDescription: 8-Lead Plastic Dual In-Line (P) - 300 mil Body [PDIP]; Supplier 1: Digi-Key; Supplier Part Number 1: MCP6231-E/P-ND; Mounting Technology: Through Hole; Code_JEDEC: MS-001; ComponentLink1Description: Manufacturer URL; ComponentLink1URL: http://www.microchip.com/; ComponentLink2Description: Datasheet; ComponentLink2URL: http://ww1.microchip.com/downloads/en/DeviceDoc/21881e.pdf; ComponentLink3Description: Package Specification; ComponentLink3URL: http://www.microchip.com/stellent/groups/techpub_sg/documents/packagingspec/en012702.pdf
footprint PDIP300-P8 (DIP, 8-Leads, Row Spacing 7.62mm, Pitch 2.54mm, Body 9.5x6.6mm)
pins: 1 NC, 2 VIN- (in), 3 VIN+ (in), 4 VSS (power), 5 NC, 6 VOUT (out), 7 VDD (power), 8 NC

## MCP6231-E/SN
designator U?
20 uA, 300 KHz Rail-to-Rail Operational Amplifier, 8-Pin SOIC, Extended Temperature; Manufacturer: Microchip; PartNumber: MCP6231-E/SN; DatasheetVersion: revE, Aug-2009; PackageVersion: revBB, Aug-2009; PackageReference: SOIC-SN8; PackageDescription: 8-Lead Plastic Small Outline (SN) - Narrow, 3.90mm Body [SOIC]; Supplier 1: Digi-Key; Supplier Part Number 1: MCP6231-E/SN-ND; Mounting Technology: Surface Mount; Code_JEDEC: MS-012; Code_IPC: SOIC127P600-8; ComponentLink1Description: Manufacturer URL; ComponentLink1URL: http://www.microchip.com/; ComponentLink2Description: Datasheet; ComponentLink2URL: http://ww1.microchip.com/downloads/en/DeviceDoc/21881e.pdf; ComponentLink3Description: Package Specification; ComponentLink3URL: http://www.microchip.com/stellent/groups/techpub_sg/documents/packagingspec/en012702.pdf
footprint SOIC-SN8_N (SOIC, 8-Leads, Body 4.9x3.8mm, Pitch 1.27mm, IPC Medium Density)
footprint SOIC-SN8_L (SOIC, 8-Leads, Body 4.9x3.8mm, Pitch 1.27mm, IPC High Density)
footprint SOIC-SN8_M (SOIC, 8-Leads, Body 4.9x3.8mm, Pitch 1.27mm, IPC Low Density)
pins: 1 NC, 2 VIN- (in), 3 VIN+ (in), 4 VSS (power), 5 NC, 6 VOUT (out), 7 VDD (power), 8 NC

## MCP6231RT-E/OT
designator U?
20 uA, 300 KHz Rail-to-Rail Operational Amplifier, 5-Pin SOT-23, Extended Temperature, Tape and Reel; Manufacturer: Microchip; PartNumber: MCP6231RT-E/OT; DatasheetVersion: revE, Aug-2009; PackageVersion: revBB, Aug-2009; PackageReference: SOT-23-OT5; PackageDescription: 5-Lead Plastic Small Outline Transistor (OT) [SOT-23]; Supplier 1: Digi-Key; Supplier Part Number 1: MCP6231RT-E/OTTR-ND; Mounting Technology: Surface Mount; Code_IPC: SOT23-5; ComponentLink1Description: Manufacturer URL; ComponentLink1URL: http://www.microchip.com/; ComponentLink2Description: Datasheet; ComponentLink2URL: http://ww1.microchip.com/downloads/en/DeviceDoc/21881e.pdf; ComponentLink3Description: Package Specification; ComponentLink3URL: http://www.microchip.com/stellent/groups/techpub_sg/documents/packagingspec/en012702.pdf
footprint SOT-23-OT5_N (SOT23, 5-Leads, Body 2.9x1.6mm, Pitch 0.95mm, Lead Span 2.7mm, IPC Medium Density)
footprint SOT-23-OT5_L (SOT23, 5-Leads, Body 2.9x1.6mm, Pitch 0.95mm, Lead Span 2.7mm, IPC High Density)
footprint SOT-23-OT5_M (SOT23, 5-Leads, Body 2.9x1.6mm, Pitch 0.95mm, Lead Span 2.7mm, IPC Low Density)
pins: 1 VOUT (out), 2 VDD (power), 3 VIN+ (in), 4 VIN- (in), 5 VSS (power)

## MCP6231T-E/MC
designator U?
20 uA, 300 KHz Rail-to-Rail Operational Amplifier, 8-Pin DFN, Extended Temperature, Tape and Reel; Manufacturer: Microchip; PartNumber: MCP6231T-E/MC; DatasheetVersion: revE, Aug-2009; PackageVersion: revBB, Aug-2009; PackageReference: DFN-MC8; PackageDescription: 8-Lead Plastic Dual Flat, No Lead Package (MC) - 2x3x0.9mm Body [DFN]; Supplier 1: Digi-Key; Supplier Part Number 1: MCP6231T-E/MCTR-ND; Mounting Technology: Surface Mount; ComponentLink1Description: Manufacturer URL; ComponentLink1URL: http://www.microchip.com/; ComponentLink2Description: Datasheet; ComponentLink2URL: http://ww1.microchip.com/downloads/en/DeviceDoc/21881e.pdf; ComponentLink3Description: Package Specification; ComponentLink3URL: http://www.microchip.com/stellent/groups/techpub_sg/documents/packagingspec/en012702.pdf
footprint DFN-MC8 (SON, 8-Leads, Body 2x3mm, Pitch 0.5mm, Microchip Recommended)
pins: 1 NC, 2 VIN- (in), 3 VIN+ (in), 4 VSS (power), 5 NC, 6 VOUT (out), 7 VDD (power), 8 NC, 9 Thermal Pad

## MCP6231T-E/MS
designator U?
20 uA, 300 KHz Rail-to-Rail Operational Amplifier, 8-Pin MSOP, Extended Temperature, Tape and Reel; Manufacturer: Microchip; PartNumber: MCP6231T-E/MS; DatasheetVersion: revE, Aug-2009; PackageVersion: revBB, Aug-2009; PackageReference: MSOP-MS8; PackageDescription: 8-Lead Plastic Micro Small Outline Package (MS) [MSOP]; Supplier 1: Digi-Key; Supplier Part Number 1: MCP6231T-E/MS-ND; Mounting Technology: Surface Mount; ComponentLink1Description: Manufacturer URL; ComponentLink1URL: http://www.microchip.com/; ComponentLink2Description: Datasheet; ComponentLink2URL: http://ww1.microchip.com/downloads/en/DeviceDoc/21881e.pdf; ComponentLink3Description: Package Specification; ComponentLink3URL: http://www.microchip.com/stellent/groups/techpub_sg/documents/packagingspec/en012702.pdf
footprint MSOP-MS8_N (TSOP, 8-Leads, Body 3x3mm, Pitch 0.65mm, IPC Medium Density)
footprint MSOP-MS8_L (TSOP, 8-Leads, Body 3x3mm, Pitch 0.65mm, IPC High Density)
footprint MSOP-MS8_M (TSOP, 8-Leads, Body 3x3mm, Pitch 0.65mm, IPC Low Density)
pins: 1 NC, 2 VIN- (in), 3 VIN+ (in), 4 VSS (power), 5 NC, 6 VOUT (out), 7 VDD (power), 8 NC